# Altium footprint library Relays.PcbLib: 58 footprints (part 1 of 4)
Each footprint in its own frame and in the unit in brackets; x right, y up, seen from the top. Pads: shape width x height; smd on the part's side, far side on the other; paste and mask are expansions set on the pad; w line width, h text height; cw(c..) or ccw(c..) is an arc to the next point about the centre after c.
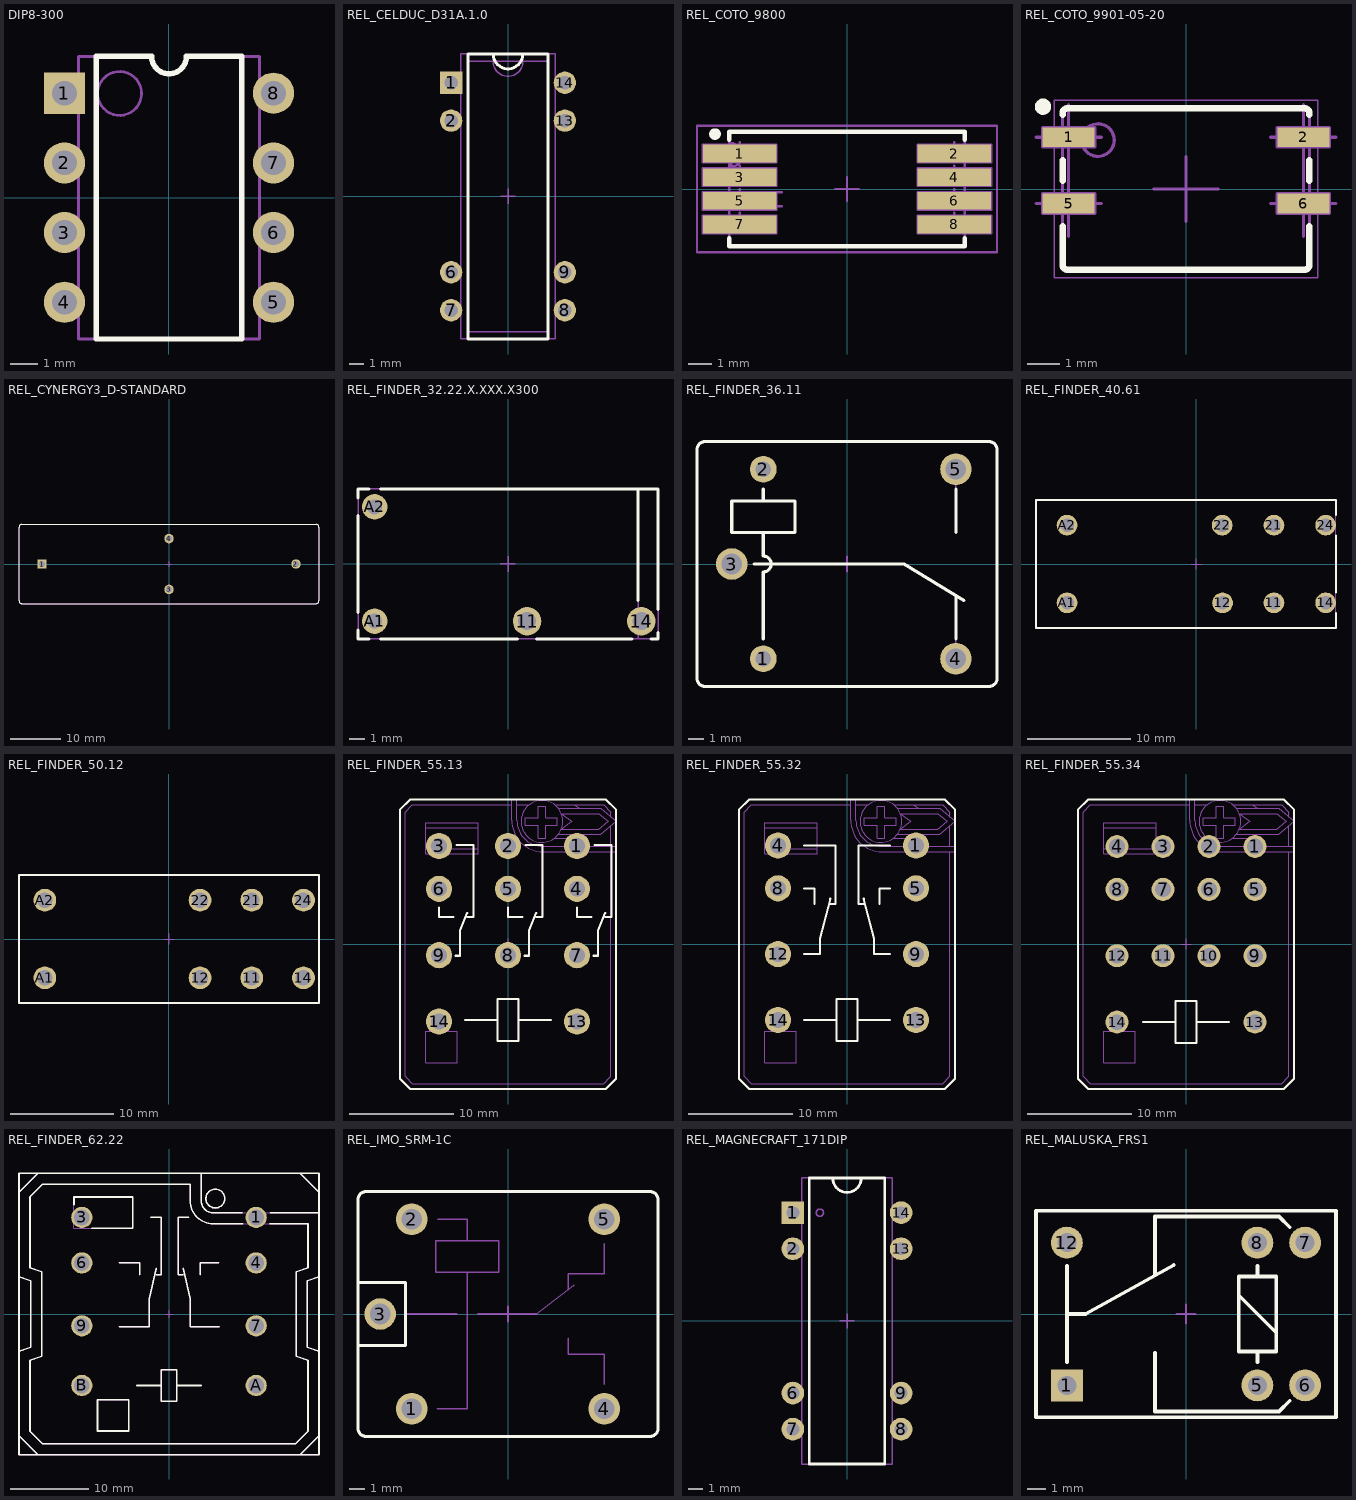
[diagram p0: the footprints below, top view; thin cyan lines are the x and y axes]

## DIP8-300 [mm] "DIP 8 Leads, Row Spacing 7.62 mm; Pitch 2.54 mm"
height 5.08
pads (8):
  rect 1.5x1.5 hole 0.9: 1(-3.81,3.81)
  round 1.5 hole 0.9: 2(-3.81,1.27) 3(-3.81,-1.27) 4(-3.81,-3.81) 5(3.81,-3.81) 6(3.81,-1.27) 7(3.81,1.27) 8(3.81,3.81)
Top Overlay:
  lines w0.2: -2.65,-5.15 2.65,-5.15 2.65,5.15 0.635,5.15 cw(c0,5.15) -0.635,5.15 -2.65,5.15 -2.65,-5.15
Mechanical 14:
  circle w0.1: c-1.8,3.8 r0.8
  lines w0.1: -3.3,-5.15 -3.3,5.15 -0.67,5.15 ccw(c-0.035,5.15) 0.6,5.15 3.3,5.15 3.3,-5.15 -3.3,-5.15
3D body: height 5.33, standoff -3.3, extent -3.91,-5.03 3.96,5.13

## REL_CELDUC_D31A.1.0 [mm] "DIP 14 - 8 Leads, Row Spacing 7.62 mm; Pitch 2.54 mm"
height 6.8
pads (8):
  rect 1.5x1.5 hole 0.9: 1(-3.81,7.62)
  round 1.5 hole 0.9: 2(-3.81,5.08) 6(-3.81,-5.08) 7(-3.81,-7.62) 8(3.81,-7.62) 9(3.81,-5.08) 13(3.81,5.08) 14(3.81,7.62)
Top Overlay:
  lines w0.2: -0.999,9.55 ccw(c0,9.55) 0.999,9.55 ; -2.675,-9.55 -2.675,9.55 2.675,9.55 2.675,-9.55 -2.675,-9.55
Mechanical 8:
  lines w0.1: -4.31,-7.62 -3.81,-7.62 ; -4.31,-5.08 -3.81,-5.08 ; -4.31,5.08 -3.81,5.08 ; -4.31,7.62 -3.81,7.62 ; -3.81,-8.12 -3.81,-7.62 ; -3.81,-7.12 -3.81,-7.62 ; -3.81,-5.58 -3.81,-5.08 ; -3.81,-4.58 -3.81,-5.08 ; -3.81,4.58 -3.81,5.08 ; -3.81,5.58 -3.81,5.08 ; -3.81,7.12 -3.81,7.62 ; -3.81,8.12 -3.81,7.62 ; -3.31,-7.62 -3.81,-7.62 ; -3.31,-5.08 -3.81,-5.08 ; -3.31,5.08 -3.81,5.08 ; -3.31,7.62 -3.81,7.62 ; -0.5,0 0,0 ; 0,-0.5 0,0 ; 0,0.5 0,0 ; 0.5,0 0,0 ; 3.31,-7.62 3.81,-7.62 ; 3.31,-5.08 3.81,-5.08 ; 3.31,5.08 3.81,5.08 ; 3.31,7.62 3.81,7.62 ; 3.81,-8.12 3.81,-7.62 ; 3.81,-7.12 3.81,-7.62 ; 3.81,-5.58 3.81,-5.08 ; 3.81,-4.58 3.81,-5.08 ; 3.81,4.58 3.81,5.08 ; 3.81,5.58 3.81,5.08 ; 3.81,7.12 3.81,7.62 ; 3.81,8.12 3.81,7.62 ; 4.31,-7.62 3.81,-7.62 ; 4.31,-5.08 3.81,-5.08 ; 4.31,5.08 3.81,5.08 ; 4.31,7.62 3.81,7.62
Mechanical 14:
  lines w0.1: -0.999,9.05 ccw(c0,9.05) 0.999,9.05 ; -3.175,-9.55 -3.175,9.55 3.175,9.55 3.175,-9.55 -3.175,-9.55 ; -2.675,-9.05 -2.675,9.05 2.675,9.05 2.675,-9.05 -2.675,-9.05
3D body: height 7.33, standoff -3.3, extent -3.935,-9.551 3.935,9.551

## REL_COTO_9800 [mm] "9800 Serie SMD Reed Relay,  J-Lead Style, COTO 9814 & 9852 Model"
height 5.08
pads (8):
  rect 3.175x0.76 smd: 1(-4.633,1.53) 2(4.633,1.53) 3(-4.633,0.51) 4(4.633,0.51) 5(-4.633,-0.51) 6(4.633,-0.51) 7(-4.633,-1.53) 8(4.633,-1.53)
Top Overlay:
  circle w0.25: c-5.693,2.37 r0.125
  lines w0.2: 5.08,-2.12 5.08,-2.475 -5.08,-2.475 ; 5.08,2.12 5.08,2.475 -5.08,2.475 ; -5.08,-2.475 -5.08,-2.12 -5.08,-2.475 ; -5.08,2.475 -5.08,2.12 -5.08,2.475
Mechanical 8:
  lines w0.1: -5.133,-1.53 -4.633,-1.53 ; -5.133,-0.51 -4.633,-0.51 ; -5.133,0.51 -4.633,0.51 ; -5.133,1.53 -4.633,1.53 ; -4.633,-1.03 -4.633,-1.53 ; -4.633,-0.01 -4.633,-0.51 ; -4.633,1.01 -4.633,0.51 ; -4.633,2.03 -4.633,1.53 ; -4.4,-0.745 -2.8,-0.745 ; -4.4,-0.145 -2.8,-0.145 ; -4.133,-1.53 -4.633,-1.53 ; -4.133,-0.51 -4.633,-0.51 ; -4.133,0.51 -4.633,0.51 ; -4.133,1.53 -4.633,1.53 ; -0.5,0 0,0 ; 0,-0.5 0,0 ; 0,0.5 0,0 ; 0.5,0 0,0 ; 4.133,-1.53 4.633,-1.53 ; 4.133,-0.51 4.633,-0.51 ; 4.133,0.51 4.633,0.51 ; 4.133,1.53 4.633,1.53 ; 4.633,-1.03 4.633,-1.53 ; 4.633,-0.01 4.633,-0.51 ; 4.633,1.01 4.633,0.51 ; 4.633,2.03 4.633,1.53 ; 5.133,-1.53 4.633,-1.53 ; 5.133,-0.51 4.633,-0.51 ; 5.133,0.51 4.633,0.51 ; 5.133,1.53 4.633,1.53 ; -6.22,-1.91 -3.045,-1.91 -3.045,-1.15 -6.22,-1.15 -6.22,-1.91 ; -6.22,-0.89 -3.045,-0.89 -3.045,-0.13 -6.22,-0.13 -6.22,-0.89 ; -6.22,0.13 -3.045,0.13 -3.045,0.89 -6.22,0.89 -6.22,0.13 ; -6.22,1.15 -3.045,1.15 -3.045,1.91 -6.22,1.91 -6.22,1.15 ; 3.045,-1.91 6.22,-1.91 6.22,-1.15 3.045,-1.15 3.045,-1.91 ; 3.045,-0.89 6.22,-0.89 6.22,-0.13 3.045,-0.13 3.045,-0.89 ; 3.045,0.13 6.22,0.13 6.22,0.89 3.045,0.89 3.045,0.13 ; 3.045,1.15 6.22,1.15 6.22,1.91 3.045,1.91 3.045,1.15
Mechanical 14:
  lines w0.1: -5.08,-1.72 -5.585,-1.72 -5.585,-1.34 -5.08,-1.34 ; -5.08,-0.7 -5.585,-0.7 -5.585,-0.32 -5.08,-0.32 ; -5.08,0.32 -5.585,0.32 -5.585,0.7 -5.08,0.7 ; -5.08,1.34 -5.585,1.34 -5.585,1.72 -5.08,1.72 ; 5.08,-1.72 5.585,-1.72 5.585,-1.34 5.08,-1.34 ; 5.08,-0.7 5.585,-0.7 5.585,-0.32 5.08,-0.32 ; 5.08,0.32 5.585,0.32 5.585,0.7 5.08,0.7 ; 5.08,1.34 5.585,1.34 5.585,1.72 5.08,1.72 ; -5.08,-2.475 -5.08,2.475 ; -5.08,-2.475 5.08,-2.475 5.08,2.475 -5.08,2.475 ; -5.08,-2.475 -5.08,2.475 ; -4.98,0.975 ccw(c-4.98,1.475) -4.98,1.975 ; -4.98,0.975 ccw(c-4.98,1.475) -4.98,1.975 ; -4.98,0.975 -4.98,1.975
Mechanical 15:
  lines w0.1: -6.47,-2.725 6.47,-2.725 6.47,2.725 -6.47,2.725 -6.47,-2.725
3D body: height 5.08, standoff 0, extent -5.585,-2.475 5.585,2.475

## REL_COTO_9901-05-20 [mm] "SMD Reed Relay,  J-Lead Style, COTO 9900 Serie"
height 3.6
pads (4):
  rect 1.6x0.6 smd: 1(-3.6,1.585) 2(3.6,1.585) 5(-3.6,-0.445) 6(3.6,-0.445)
Top Overlay:
  circle w0.25: c-4.385,2.525 r0.125
  lines w0.2: -3.785,-1.145 -3.785,-2.324 ccw(c-3.635,-2.324) -3.635,-2.474 3.635,-2.474 ccw(c3.635,-2.324) 3.785,-2.324 3.785,-1.145 ; -3.785,0.255 -3.785,0.885 ; -3.785,2.285 -3.785,2.325 cw(c-3.635,2.325) -3.635,2.475 3.635,2.475 cw(c3.635,2.325) 3.785,2.325 3.785,2.285 ; 3.785,0.255 3.785,0.885
Mechanical 8:
  lines w0.1: -4.6,-0.445 -3.6,-0.445 ; -4.6,1.585 -3.6,1.585 ; -3.6,-1.445 -3.6,-0.445 ; -3.6,0.555 -3.6,-0.445 ; -3.6,0.585 -3.6,1.585 ; -3.6,2.585 -3.6,1.585 ; -2.6,-0.445 -3.6,-0.445 ; -2.6,1.585 -3.6,1.585 ; -1,0 0,0 ; 0,-1 0,0 ; 0,1 0,0 ; 1,0 0,0 ; 2.6,-0.445 3.6,-0.445 ; 2.6,1.585 3.6,1.585 ; 3.6,-1.445 3.6,-0.445 ; 3.6,0.555 3.6,-0.445 ; 3.6,0.585 3.6,1.585 ; 3.6,2.585 3.6,1.585 ; 4.6,-0.445 3.6,-0.445 ; 4.6,1.585 3.6,1.585 ; -4.4,-0.745 -2.8,-0.745 -2.8,-0.145 -4.4,-0.145 -4.4,-0.745 ; -4.4,1.285 -4.4,1.885 -2.8,1.885 -2.8,1.285 -4.4,1.285 ; 2.8,-0.745 4.4,-0.745 4.4,-0.145 2.8,-0.145 2.8,-0.745 ; 2.8,1.285 2.8,1.885 4.4,1.885 4.4,1.285 2.8,1.285
Mechanical 14:
  circle w0.1: c-2.7,1.5 r0.5
  lines w0.1: -3.79,-0.255 -3.97,-0.255 -3.97,-0.635 -3.785,-0.635 ; -3.79,1.775 -3.97,1.775 -3.97,1.395 -3.785,1.395 ; 3.785,1.775 3.97,1.775 3.97,1.395 3.79,1.395 ; 3.79,-0.635 3.97,-0.635 3.97,-0.255 3.79,-0.255 ; -3.785,-2.324 ccw(c-3.635,-2.324) -3.635,-2.474 3.635,-2.474 ccw(c3.635,-2.324) 3.785,-2.324 3.785,2.325 ccw(c3.635,2.325) 3.635,2.475 -3.635,2.475 ccw(c-3.635,2.325) -3.785,2.325 -3.785,-2.324
Mechanical 15:
  lines w0.05: -4.035,-2.724 4.035,-2.724 4.035,2.725 -4.035,2.725 -4.035,-2.724
3D body: height 3.6, standoff 0, extent -3.97,-2.475 3.97,2.475

## REL_CYNERGY3_D-STANDARD [mm] "4 Leads, Body 60mm x 15.8mm, CYNERGY3 Serie D, Standard Mounting Style"
height 18.5
pads (4):
  rect 1.9x1.9 hole 1.2: 1(-25.4,0)
  round 1.9 hole 1.2: 2(25.4,0) 3(0,-5.08) 4(0,5.08)
Top Overlay:
  lines w0.2: -30,-7.4 ccw(c-29.5,-7.4) -29.5,-7.9 29.5,-7.9 ccw(c29.5,-7.4) 30,-7.4 30,7.4 ccw(c29.5,7.4) 29.5,7.9 -29.5,7.9 ccw(c-29.5,7.4) -30,7.4 -30,-7.4
Mechanical 8:
  lines w0.1: -25.9,0 -25.4,0 ; -25.4,-0.5 -25.4,0 ; -25.4,0.5 -25.4,0 ; -24.9,0 -25.4,0 ; -0.5,-5.08 0,-5.08 ; -0.5,0 0,0 ; -0.5,5.08 0,5.08 ; 0,-5.58 0,-5.08 ; 0,-4.58 0,-5.08 ; 0,-0.5 0,0 ; 0,0.5 0,0 ; 0,4.58 0,5.08 ; 0,5.58 0,5.08 ; 0.5,-5.08 0,-5.08 ; 0.5,0 0,0 ; 0.5,5.08 0,5.08 ; 24.9,0 25.4,0 ; 25.4,-0.5 25.4,0 ; 25.4,0.5 25.4,0 ; 25.9,0 25.4,0
Mechanical 14:
  lines w0.1: -30,-7.4 ccw(c-29.5,-7.4) -29.5,-7.9 29.5,-7.9 ccw(c29.5,-7.4) 30,-7.4 30,7.4 ccw(c29.5,7.4) 29.5,7.9 -29.5,7.9 ccw(c-29.5,7.4) -30,7.4 -30,-7.4
3D body: height 18.5, standoff -4, extent -30,-7.9 30,7.9

## REL_FINDER_32.22.X.XXX.X300 [mm] "1 NO (SPST-NO) 32 Serie Subminiature PCB Relay, Body 20mm x 10mm"
height 10.7
pads (4):
  round 1.9 hole 1.2: 11(1.27,-3.81) 14(8.89,-3.81)
  round 1.7 hole 1: A1(-8.89,-3.81) A2(-8.89,3.81)
Top Overlay:
  lines w0.2: -10,-4.385 -10,-5 -9.273,-5 ; -10,-3.235 -10,3.235 ; -10,4.385 -10,5 -9.273,5 ; -8.507,-5 0.633,-5 ; -8.507,5 10,5 10,-3.042 ; 1.907,-5 8.253,-5 ; 8.675,-2.45 8.675,5 ; 9.527,-5 10,-5 10,-4.578
Mechanical 8:
  lines w0.1: -9.39,-3.81 -8.89,-3.81 ; -9.39,3.81 -8.89,3.81 ; -8.89,-4.31 -8.89,-3.81 ; -8.89,-3.31 -8.89,-3.81 ; -8.89,3.31 -8.89,3.81 ; -8.89,4.31 -8.89,3.81 ; -8.39,-3.81 -8.89,-3.81 ; -8.39,3.81 -8.89,3.81 ; -0.5,0 0,0 ; 0,-0.5 0,0 ; 0,0.5 0,0 ; 0.5,0 0,0 ; 0.77,-3.81 1.27,-3.81 ; 1.27,-4.31 1.27,-3.81 ; 1.27,-3.31 1.27,-3.81 ; 1.77,-3.81 1.27,-3.81 ; 8.39,-3.81 8.89,-3.81 ; 8.89,-4.31 8.89,-3.81 ; 8.89,-3.31 8.89,-3.81 ; 9.39,-3.81 8.89,-3.81
Mechanical 14:
  lines w0.1: 8.675,-5 8.675,5 ; -10,-5 10,-5 10,5 -10,5 -10,-5
3D body: height 10.7, standoff -3.6, extent -10,-5 10,5

## REL_FINDER_36.11 [mm] "8 Leads, Row Spacing 12 mm; Body 19mm x 15.5mm, 36 Serie"
height 15.5
pads (5):
  round 1.7 hole 1: 1(-5.3,-6) 2(-5.3,6)
  round 2 hole 1.3: 3(-7.3,0) 4(6.9,-6) 5(6.9,6)
Top Overlay:
  lines w0.2: -5.9,0 3.6,0 7.4,-2.303 ; -5.3,-4.75 -5.3,-0.5 ccw(c-5.3,0) -5.3,0.5 -5.3,2 ; -5.3,4 -5.3,4.75 ; 6.9,-4.75 6.9,-2 ; 6.9,2 6.9,4.75 ; -9.5,-7.25 ccw(c-9,-7.25) -9,-7.75 9,-7.75 ccw(c9,-7.25) 9.5,-7.25 9.5,7.25 ccw(c9,7.25) 9,7.75 -9,7.75 ccw(c-9,7.25) -9.5,7.25 -9.5,-7.25 ; -7.3,2 -7.3,4 -3.3,4 -3.3,2 -7.3,2
Mechanical 8:
  lines w0.1: -7.8,0 -7.3,0 ; -7.3,-0.5 -7.3,0 ; -7.3,0.5 -7.3,0 ; -6.8,0 -7.3,0 ; -5.8,-6 -5.3,-6 ; -5.8,6 -5.3,6 ; -5.3,-6.5 -5.3,-6 ; -5.3,-5.5 -5.3,-6 ; -5.3,5.5 -5.3,6 ; -5.3,6.5 -5.3,6 ; -4.8,-6 -5.3,-6 ; -4.8,6 -5.3,6 ; -0.5,0 0,0 ; 0,-0.5 0,0 ; 0,0.5 0,0 ; 0.5,0 0,0 ; 6.4,-6 6.9,-6 ; 6.4,6 6.9,6 ; 6.9,-6.5 6.9,-6 ; 6.9,-5.5 6.9,-6 ; 6.9,5.5 6.9,6 ; 6.9,6.5 6.9,6 ; 7.4,-6 6.9,-6 ; 7.4,6 6.9,6
Mechanical 14:
  lines w0.1: -5.9,0 3.6,0 7.4,-2.303 ; -5.3,-4.75 -5.3,-0.5 ccw(c-5.3,0) -5.3,0.5 -5.3,2 ; -5.3,4 -5.3,4.75 ; 6.9,-6 6.9,-2 ; 6.9,2 6.9,6 ; -9.5,-7.25 ccw(c-9,-7.25) -9,-7.75 9,-7.75 ccw(c9,-7.25) 9.5,-7.25 9.5,7.25 ccw(c9,7.25) 9,7.75 -9,7.75 ccw(c-9,7.25) -9.5,7.25 -9.5,-7.25 ; -7.3,2 -7.3,4 -3.3,4 -3.3,2 -7.3,2
3D body: height 15.5, standoff -3.6, extent -9.5,-7.75 9.5,7.75

## REL_FINDER_40.61 [mm] "8 Leads, 1 Pole 16A Relay, FINDER 40.61Serie, Body 29mm x 12.4mm"
height 25
pads (8):
  round 2 hole 1.3: 11(7.5,-3.75) 12(2.53,-3.76) 14(12.5,-3.75) 21(7.5,3.75) 22(2.5,3.75) 24(12.5,3.75) A1(-12.5,-3.75) A2(-12.5,3.75)
Top Overlay:
  lines w0.2: 13.5,-4.73 13.5,-6.2 -15.5,-6.2 -15.5,6.2 13.5,6.2 13.5,4.73 ; 13.5,-2.77 13.5,2.77
Mechanical 8:
  lines w0.1: -13,-3.75 -12.5,-3.75 ; -13,3.75 -12.5,3.75 ; -12.5,-4.25 -12.5,-3.75 ; -12.5,-3.25 -12.5,-3.75 ; -12.5,3.25 -12.5,3.75 ; -12.5,4.25 -12.5,3.75 ; -12,-3.75 -12.5,-3.75 ; -12,3.75 -12.5,3.75 ; -0.5,0 0,0 ; 0,-0.5 0,0 ; 0,0.5 0,0 ; 0.5,0 0,0 ; 2,-3.75 2.5,-3.75 ; 2,3.75 2.5,3.75 ; 2.5,-4.25 2.5,-3.75 ; 2.5,-3.25 2.5,-3.75 ; 2.5,3.25 2.5,3.75 ; 2.5,4.25 2.5,3.75 ; 3,-3.75 2.5,-3.75 ; 3,3.75 2.5,3.75 ; 7,-3.75 7.5,-3.75 ; 7,3.75 7.5,3.75 ; 7.5,-4.25 7.5,-3.75 ; 7.5,-3.25 7.5,-3.75 ; 7.5,3.25 7.5,3.75 ; 7.5,4.25 7.5,3.75 ; 8,-3.75 7.5,-3.75 ; 8,3.75 7.5,3.75 ; 12,-3.75 12.5,-3.75 ; 12,3.75 12.5,3.75 ; 12.5,-4.25 12.5,-3.75 ; 12.5,-3.25 12.5,-3.75 ; 12.5,3.25 12.5,3.75 ; 12.5,4.25 12.5,3.75 ; 13,-3.75 12.5,-3.75 ; 13,3.75 12.5,3.75
Mechanical 14:
  lines w0.1: -15.5,-6.2 -15.5,6.2 13.5,6.2 13.5,-6.2 -15.5,-6.2
3D body: height 25, standoff -5.3, extent -15.5,-6.2 13.5,6.2

## REL_FINDER_50.12 [mm] "8 Leads, 2 Pole 8A Relay, FINDER 50.12 Serie, Body 29mm x 12.4mm"
height 25
pads (8):
  round 2.2 hole 1.5: 11(8,-3.75) 12(3,-3.75) 14(13,-3.75) 21(8,3.75) 22(3,3.75) 24(13,3.75) A1(-12,-3.75) A2(-12,3.75)
Top Overlay:
  lines w0.2: -14.5,-6.2 -14.5,6.2 14.5,6.2 14.5,-6.2 -14.5,-6.2
Mechanical 8:
  lines w0.1: -12.5,-3.75 -12,-3.75 ; -12.5,3.75 -12,3.75 ; -12,-4.25 -12,-3.75 ; -12,-3.25 -12,-3.75 ; -12,3.25 -12,3.75 ; -12,4.25 -12,3.75 ; -11.5,-3.75 -12,-3.75 ; -11.5,3.75 -12,3.75 ; -0.5,0 0,0 ; 0,-0.5 0,0 ; 0,0.5 0,0 ; 0.5,0 0,0 ; 2.5,-3.75 3,-3.75 ; 2.5,3.75 3,3.75 ; 3,-4.25 3,-3.75 ; 3,-3.25 3,-3.75 ; 3,3.25 3,3.75 ; 3,4.25 3,3.75 ; 3.5,-3.75 3,-3.75 ; 3.5,3.75 3,3.75 ; 7.5,-3.75 8,-3.75 ; 7.5,3.75 8,3.75 ; 8,-4.25 8,-3.75 ; 8,-3.25 8,-3.75 ; 8,3.25 8,3.75 ; 8,4.25 8,3.75 ; 8.5,-3.75 8,-3.75 ; 8.5,3.75 8,3.75 ; 12.5,-3.75 13,-3.75 ; 12.5,3.75 13,3.75 ; 13,-4.25 13,-3.75 ; 13,-3.25 13,-3.75 ; 13,3.25 13,3.75 ; 13,4.25 13,3.75 ; 13.5,-3.75 13,-3.75 ; 13.5,3.75 13,3.75
Mechanical 14:
  lines w0.1: -14.5,-6.2 -14.5,6.2 14.5,6.2 14.5,-6.2 -14.5,-6.2
3D body: height 25, standoff -3.8, extent -14.5,-6.2 14.5,6.2

## REL_FINDER_55.13 [mm] "11 Leads, Row Spacing 13.2mm; Body 20.7mm x 27.7mm, FINDER_55.13 Serie"
height 35.8
pads (11):
  round 2.5 hole 1.5: 1(6.6,9.4) 2(0,9.4) 3(-6.6,9.4) 4(6.6,5.3) 5(0,5.3) 6(-6.6,5.3) 7(6.6,-1.05) 8(0,-1.05) 9(-6.6,-1.05) 13(6.6,-7.4) 14(-6.6,-7.4)
Top Overlay:
  lines w0.2: -6.6,3.5 -6.6,2.6 -5.2,2.6 ; -5,-1.1 -4.6,-1.1 -4.6,1.3 -3.9,3 ; -4.9,9.5 -3.3,9.5 -3.3,2.6 -3.9,2.6 ; -4.1,-7.25 -1,-7.25 ; 0,3.5 0,2.6 1.4,2.6 ; 1,-7.25 4.1,-7.25 ; 1.6,-1.1 2,-1.1 2,1.3 2.7,3 ; 1.7,9.5 3.3,9.5 3.3,2.6 2.7,2.6 ; 6.6,3.5 6.6,2.6 8,2.6 ; 8.2,-1.1 8.6,-1.1 8.6,1.3 9.3,3 ; 8.3,9.5 9.9,9.5 9.9,2.6 9.3,2.6 ; -10.35,-12.85 -10.35,12.85 -9.35,13.85 9.35,13.85 10.35,12.85 10.35,-12.85 9.35,-13.85 -9.35,-13.85 -10.35,-12.85 ; -1,-9.25 1,-9.25 1,-5.25 -1,-5.25 -1,-9.25
Mechanical 8:
  lines w0.1: -7.1,-7.4 -6.6,-7.4 ; -7.1,-1.05 -6.6,-1.05 ; -7.1,5.3 -6.6,5.3 ; -7.1,9.4 -6.6,9.4 ; -6.6,-7.9 -6.6,-7.4 ; -6.6,-6.9 -6.6,-7.4 ; -6.6,-1.55 -6.6,-1.05 ; -6.6,-0.55 -6.6,-1.05 ; -6.6,4.8 -6.6,5.3 ; -6.6,5.8 -6.6,5.3 ; -6.6,8.9 -6.6,9.4 ; -6.6,9.9 -6.6,9.4 ; -6.1,-7.4 -6.6,-7.4 ; -6.1,-1.05 -6.6,-1.05 ; -6.1,5.3 -6.6,5.3 ; -6.1,9.4 -6.6,9.4 ; -0.5,-1.05 0,-1.05 ; -0.5,0 0,0 ; -0.5,5.3 0,5.3 ; -0.5,9.4 0,9.4 ; 0,-1.55 0,-1.05 ; 0,-0.55 0,-1.05 ; 0,-0.5 0,0 ; 0,0.5 0,0 ; 0,4.8 0,5.3 ; 0,5.8 0,5.3 ; 0,8.9 0,9.4 ; 0,9.9 0,9.4 ; 0.5,-1.05 0,-1.05 ; 0.5,0 0,0 ; 0.5,5.3 0,5.3 ; 0.5,9.4 0,9.4 ; 6.1,-7.4 6.6,-7.4 ; 6.1,-1.05 6.6,-1.05 ; 6.1,5.3 6.6,5.3 ; 6.1,9.4 6.6,9.4 ; 6.6,-7.9 6.6,-7.4 ; 6.6,-6.9 6.6,-7.4 ; 6.6,-1.55 6.6,-1.05 ; 6.6,-0.55 6.6,-1.05 ; 6.6,4.8 6.6,5.3 ; 6.6,5.8 6.6,5.3 ; 6.6,8.9 6.6,9.4 ; 6.6,9.9 6.6,9.4 ; 7.1,-7.4 6.6,-7.4 ; 7.1,-1.05 6.6,-1.05 ; 7.1,5.3 6.6,5.3 ; 7.1,9.4 6.6,9.4
  text "21" at -1.5,-1.95 h1.5
  text "8" at 3,-1.55 h1.5
  text "24" at -1.5,4.05 h1.5
  text "5" at 3,4.75 h1.5
  text "22" at -1.5,8.15 h1.5
  text "2" at 3,8.95 h1.5
  text "A1" at 5.1,-8.45 h1.5
  text "11" at 5.1,-1.95 h1.5
  text "12" at 4.9,8.45 h1.5
  text "14" at 5.2,4.25 h1.5
  text "14" at -3.6,-8.45 h1.5
  text "9" at -3.6,-1.45 h1.5
  text "3" at -3.6,8.85 h1.5
  text "6" at -3.6,4.75 h1.5
  text "A2" at -8.1,-8.55 h1.5
  text "31" at -8.1,-1.95 h1.5
  text "42" at -8.1,8.15 h1.5
  text "34" at -8.1,4.05 h1.5
  text "13" at 9.6,-8.45 h1.5
  text "7" at 9.6,-1.55 h1.5
  text "1" at 9.7,9.25 h1.5
  text "4" at 9.7,4.85 h1.5
Mechanical 14:
  circle w0.1: c3.25,11.75 r2
  lines w0.1: -7.85,9.143 -2.85,9.143 ; -7.85,11.143 -2.85,11.143 ; -6.6,3.5 -6.6,2.6 -5.2,2.6 ; -5,-1.1 -4.6,-1.1 -4.6,1.3 -3.9,3 ; -4.9,9.5 -3.3,9.5 -3.3,2.6 -3.9,2.6 ; -4.1,-7.25 -1,-7.25 ; 0,3.5 0,2.6 1.4,2.6 ; 0.35,13.35 -9.143,13.35 -9.85,12.643 -9.85,-12.643 -9.143,-13.35 9.143,-13.35 9.85,-12.643 9.85,8.85 ; 0.35,13.85 0.35,11.85 ccw(c3.35,11.85) 3.35,8.85 10.35,8.85 ; 0.85,13.35 2.05,13.35 ; 0.85,13.85 0.85,11.85 ccw(c3.35,11.85) 3.35,9.35 10.35,9.35 ; 1,-7.25 4.1,-7.25 ; 1.6,-1.1 2,-1.1 2,1.3 2.7,3 ; 1.7,9.5 3.3,9.5 3.3,2.6 2.7,2.6 ; 4.45,10.15 6.346,10.15 6.831,10.5 ; 4.45,13.35 6.346,13.35 ; 4.811,10.5 8.85,10.5 10.35,11.75 8.85,13 4.811,13 ; 6.6,3.5 6.6,2.6 8,2.6 ; 6.831,13 6.346,13.35 ; 8.2,-1.1 8.6,-1.1 8.6,1.3 9.3,3 ; 8.3,9.5 9.9,9.5 9.9,2.6 9.3,2.6 ; 9.85,9.35 9.85,11.333 ; 9.85,12.167 9.85,12.643 9.143,13.35 6.346,13.35 ; -10.35,-12.85 -10.35,12.85 -9.35,13.85 9.35,13.85 10.35,12.85 10.35,-12.85 9.35,-13.85 -9.35,-13.85 -10.35,-12.85 ; -7.85,-11.343 -4.85,-11.343 -4.85,-8.343 -7.85,-8.343 -7.85,-11.343 ; -7.85,8.643 -2.85,8.643 -2.85,11.643 -7.85,11.643 -7.85,8.643 ; -1,-9.25 -1,-5.25 1,-5.25 1,-9.25 -1,-9.25 ; 1.641,11.402 2.902,11.402 2.902,10.153 3.588,10.153 3.588,11.402 4.71,11.402 4.71,12.088 3.588,12.088 3.588,13.222 2.902,13.222 2.902,12.088 1.641,12.088 1.641,11.402 ; 5.104,11 6.075,11.75 5.104,12.5 8.669,12.5 9.569,11.75 8.669,11 5.104,11
3D body: height 36.3, standoff -3.8, extent -10.35,-13.85 10.35,13.85

## REL_FINDER_55.32 [mm] "8 Leads, Row Spacing 13.2mm; Body 20.7mm x 27.7mm, FINDER_55.32 Serie"
height 37.2
pads (8):
  round 2.5 hole 1.5: 1(6.6,9.45) 4(-6.6,9.45) 5(6.6,5.35) 8(-6.6,5.35) 9(6.6,-0.95) 12(-6.6,-0.95) 13(6.6,-7.25) 14(-6.6,-7.25)
Top Overlay:
  lines w0.2: -4.1,-7.25 -1,-7.25 ; -4.1,-0.95 -2.6,-0.95 -2.6,0.55 -1.6,4.35 ; -4.1,5.35 -3.1,5.35 -3.1,3.85 ; -4.1,9.45 -1.1,9.45 -1.1,3.85 -1.732,3.85 ; 1,-7.25 4.1,-7.25 ; 1.6,4.35 2.6,0.55 2.6,-0.95 4.1,-0.95 ; 1.732,3.85 1.1,3.85 1.1,9.45 4.1,9.45 ; 3.1,3.85 3.1,5.35 4.1,5.35 ; -10.35,-12.85 -9.35,-13.85 9.35,-13.85 10.35,-12.85 10.35,12.85 9.35,13.85 -9.35,13.85 -10.35,12.85 -10.35,-12.85 ; -1,-9.25 -1,-5.25 1,-5.25 1,-9.25 -1,-9.25
Mechanical 8:
  lines w0.1: -7.6,-7.25 -6.6,-7.25 -6.6,-8.25 ; -7.6,-0.95 -6.6,-0.95 -6.6,-1.95 ; -7.6,5.35 -6.6,5.35 -6.6,4.35 ; -7.6,9.45 -6.6,9.45 -6.6,8.45 ; 5.6,-7.25 6.6,-7.25 6.6,-8.25 ; 5.6,-0.95 6.6,-0.95 6.6,-1.95 ; 5.6,5.35 6.6,5.35 6.6,4.35 ; 5.6,9.45 6.6,9.45 6.6,8.45
  text "14" at 9.35,4.35 h1.5
  text "12" at 9.35,8.45 h1.5
  text "11" at 9.35,-1.7 h1.5
  text "A1" at 9.35,-8.25 h1.5
  text "44" at -7.85,4.1 h1.5
  text "42" at -7.85,8.2 h1.5
  text "41" at -7.85,-1.95 h1.5
  text "A2" at -7.85,-8.5 h1.5
  text "8" at -3.85,4.85 h1.5
  text "4" at -3.85,8.95 h1.5
  text "12" at -3.85,-1.95 h1.5
  text "14" at -3.85,-8.25 h1.5
  text "5" at 5.35,4.85 h1.5
  text "1" at 5.35,9.2 h1.5
  text "9" at 5.35,-1.45 h1.5
  text "13" at 5.35,-8.25 h1.5
  text "Must be Used with FINDER 94.12 Socket" at -1.27,-13.335 h0.95
Mechanical 14:
  circle w0.1: c3.25,11.75 r2
  lines w0.1: -7.85,9.143 -2.85,9.143 ; -7.85,11.143 -2.85,11.143 ; 0.35,13.35 -9.143,13.35 -9.85,12.643 -9.85,-12.643 -9.143,-13.35 9.143,-13.35 9.85,-12.643 9.85,8.85 ; 0.35,13.85 0.35,11.85 ccw(c3.35,11.85) 3.35,8.85 10.35,8.85 ; 0.85,13.35 2.05,13.35 ; 0.85,13.85 0.85,11.85 ccw(c3.35,11.85) 3.35,9.35 10.35,9.35 ; 4.45,10.15 6.346,10.15 6.831,10.5 ; 4.45,13.35 6.346,13.35 ; 4.811,10.5 8.85,10.5 10.35,11.75 8.85,13 4.811,13 ; 6.831,13 6.346,13.35 ; 9.85,9.35 9.85,11.333 ; 9.85,12.167 9.85,12.643 9.143,13.35 6.346,13.35 ; -10.35,-12.85 -9.35,-13.85 9.35,-13.85 10.35,-12.85 10.35,12.85 9.35,13.85 -9.35,13.85 -10.35,12.85 -10.35,-12.85 ; -7.85,-11.343 -7.85,-8.343 -4.85,-8.343 -4.85,-11.343 -7.85,-11.343 ; -7.85,8.643 -7.85,11.643 -2.85,11.643 -2.85,8.643 -7.85,8.643 ; 1.641,11.402 1.641,12.088 2.902,12.088 2.902,13.222 3.588,13.222 3.588,12.088 4.71,12.088 4.71,11.402 3.588,11.402 3.588,10.153 2.902,10.153 2.902,11.402 1.641,11.402 ; 5.104,11 8.669,11 9.569,11.75 8.669,12.5 5.104,12.5 6.075,11.75 5.104,11
3D body: height 48.2, standoff 5.4, extent -10.35,-13.85 10.35,13.85

## REL_FINDER_55.34 [mm] "14 Leads, Row Spacing 4.4mm; Body 20.7mm x 27.7mm, FINDER_55.34 Serie"
height 37.2
pads (14):
  round 2.2 hole 1.5: 1(6.6,9.35) 2(2.2,9.35) 3(-2.2,9.35) 4(-6.6,9.35) 5(6.6,5.25) 6(2.2,5.25) 7(-2.2,5.25) 8(-6.6,5.25) 9(6.6,-1.1) 10(2.2,-1.1) 11(-2.2,-1.1) 12(-6.6,-1.1) 13(6.6,-7.45) 14(-6.6,-7.45)
Top Overlay:
  lines w0.2: -4.1,-7.45 -1,-7.45 ; 1,-7.45 4.1,-7.45 ; -10.35,-12.85 -10.35,12.85 -9.35,13.85 9.35,13.85 10.35,12.85 10.35,-12.85 9.35,-13.85 -9.35,-13.85 -10.35,-12.85 ; -1,-9.45 1,-9.45 1,-5.45 -1,-5.45 -1,-9.45
Mechanical 8:
  lines w0.1: -7.1,-7.45 -6.6,-7.45 ; -7.1,-1.1 -6.6,-1.1 ; -7.1,5.25 -6.6,5.25 ; -7.1,9.35 -6.6,9.35 ; -6.6,-7.95 -6.6,-7.45 ; -6.6,-6.95 -6.6,-7.45 ; -6.6,-1.6 -6.6,-1.1 ; -6.6,-0.6 -6.6,-1.1 ; -6.6,4.75 -6.6,5.25 ; -6.6,5.75 -6.6,5.25 ; -6.6,8.85 -6.6,9.35 ; -6.6,9.85 -6.6,9.35 ; -6.1,-7.45 -6.6,-7.45 ; -6.1,-1.1 -6.6,-1.1 ; -6.1,5.25 -6.6,5.25 ; -6.1,9.35 -6.6,9.35 ; -2.7,-1.1 -2.2,-1.1 ; -2.7,5.25 -2.2,5.25 ; -2.7,9.35 -2.2,9.35 ; -2.2,-1.6 -2.2,-1.1 ; -2.2,-0.6 -2.2,-1.1 ; -2.2,4.75 -2.2,5.25 ; -2.2,5.75 -2.2,5.25 ; -2.2,8.85 -2.2,9.35 ; -2.2,9.85 -2.2,9.35 ; -1.7,-1.1 -2.2,-1.1 ; -1.7,5.25 -2.2,5.25 ; -1.7,9.35 -2.2,9.35 ; -0.5,0 0,0 ; 0,-0.5 0,0 ; 0,0.5 0,0 ; 0.5,0 0,0 ; 1.7,-1.1 2.2,-1.1 ; 1.7,5.25 2.2,5.25 ; 1.7,9.35 2.2,9.35 ; 2.2,-1.6 2.2,-1.1 ; 2.2,-0.6 2.2,-1.1 ; 2.2,4.75 2.2,5.25 ; 2.2,5.75 2.2,5.25 ; 2.2,8.85 2.2,9.35 ; 2.2,9.85 2.2,9.35 ; 2.7,-1.1 2.2,-1.1 ; 2.7,5.25 2.2,5.25 ; 2.7,9.35 2.2,9.35 ; 6.1,-7.45 6.6,-7.45 ; 6.1,-1.1 6.6,-1.1 ; 6.1,5.25 6.6,5.25 ; 6.1,9.35 6.6,9.35 ; 6.6,-7.95 6.6,-7.45 ; 6.6,-6.95 6.6,-7.45 ; 6.6,-1.6 6.6,-1.1 ; 6.6,-0.6 6.6,-1.1 ; 6.6,4.75 6.6,5.25 ; 6.6,5.75 6.6,5.25 ; 6.6,8.85 6.6,9.35 ; 6.6,9.85 6.6,9.35 ; 7.1,-7.45 6.6,-7.45 ; 7.1,-1.1 6.6,-1.1 ; 7.1,5.25 6.6,5.25 ; 7.1,9.35 6.6,9.35
  text "12" at -7.85,-1.95 h1.5
  text "4" at -7.9,8.8 h1.5
  text "8" at -7.9,4.8 h1.5
  text "7" at -3.5,4.8 h1.5
  text "3" at -3.5,8.9 h1.5
  text "2" at 0.9,8.9 h1.5
  text "6" at 0.9,4.8 h1.5
  text "11" at -3.5,-1.5 h1.5
  text "10" at 0.9,-2 h1.5
  text "9" at 5.3,-1.5 h1.5
  text "5" at 5.3,4.8 h1.5
  text "1" at 5.3,8.9 h1.5
  text "13" at 5.3,-8.55 h1.5
  text "14" at -7.9,-8.55 h1.5
Mechanical 14:
  circle w0.1: c3.25,11.75 r2
  lines w0.1: -7.85,9.143 -2.85,9.143 ; -7.85,11.143 -2.85,11.143 ; 0.35,13.35 -9.143,13.35 -9.85,12.643 -9.85,-12.643 -9.143,-13.35 9.143,-13.35 9.85,-12.643 9.85,8.85 ; 0.35,13.85 0.35,11.85 ccw(c3.35,11.85) 3.35,8.85 10.35,8.85 ; 0.85,13.35 2.05,13.35 ; 0.85,13.85 0.85,11.85 ccw(c3.35,11.85) 3.35,9.35 10.35,9.35 ; 4.45,10.15 6.346,10.15 6.831,10.5 ; 4.45,13.35 6.346,13.35 ; 4.811,10.5 8.85,10.5 10.35,11.75 8.85,13 4.811,13 ; 6.831,13 6.346,13.35 ; 9.85,9.35 9.85,11.333 ; 9.85,12.167 9.85,12.643 9.143,13.35 6.346,13.35 ; -10.35,-12.85 -10.35,12.85 ; -10.35,-12.85 -9.35,-13.85 ; -10.35,-12.85 -10.35,12.85 ; -10.35,-12.85 -9.35,-13.85 ; -10.35,12.85 -9.35,13.85 ; -10.35,12.85 -9.35,13.85 ; -9.35,-13.85 9.35,-13.85 ; -9.35,-13.85 9.35,-13.85 ; -9.35,13.85 9.35,13.85 ; -9.35,13.85 9.35,13.85 ; 9.35,-13.85 10.35,-12.85 ; 9.35,-13.85 10.35,-12.85 ; 9.35,13.85 10.35,12.85 ; 9.35,13.85 10.35,12.85 ; 10.35,-12.85 10.35,12.85 ; 10.35,-12.85 10.35,12.85 ; -7.85,-11.343 -4.85,-11.343 -4.85,-8.343 -7.85,-8.343 -7.85,-11.343 ; -7.85,8.643 -2.85,8.643 -2.85,11.643 -7.85,11.643 -7.85,8.643 ; 1.641,11.402 2.902,11.402 2.902,10.153 3.588,10.153 3.588,11.402 4.71,11.402 4.71,12.088 3.588,12.088 3.588,13.222 2.902,13.222 2.902,12.088 1.641,12.088 1.641,11.402 ; 5.104,11 8.669,11 9.569,11.75 8.669,12.5 5.104,12.5 6.075,11.75 5.104,11
3D body: height 48.7, standoff 5.4, extent -10.35,-13.85 10.35,13.85

## REL_FINDER_62.22 [mm] "8 Leads, Row Spacing 22.2mm; Body 35.8mm x 38.2mm, FINDER 62.22 Serie"
height 37.2
pads (8):
  round 2.7 hole 2: 1(11.1,12.3) 3(-11.1,12.3) 4(11.1,6.5) 6(-11.1,6.5) 7(11.1,-1.5) 9(-11.1,-1.5) A(11.1,-9.1) B(-11.1,-9.1)
Top Overlay:
  circle w0.2: c5.9,14.7 r1.2
  lines w0.2: -19.1,-4.75 -17.6,-4.25 -17.6,4.25 -19.1,4.75 ; -12.1,13.916 -12.1,14.9 -4.6,14.9 -4.6,10.9 -9.815,10.9 ; -6.3,-1.6 -2.5,-1.6 -2.5,1.9 -1.6,5.8 ; -6.3,6.5 -3.7,6.5 -3.7,5 ; -4.1,-9.1 -1,-9.1 ; -2.3,12.3 -1,12.3 -1,5 -1.632,5 ; 1,-9.1 4.1,-9.1 ; 1.8,5.8 2.7,1.9 2.7,-1.6 6.4,-1.6 ; 1.832,5 1.2,5 1.2,12.3 2.5,12.3 ; 4,5 4,6.5 6.3,6.5 ; 4.1,17.9 4.1,14.4 ccw(c5.6,14.4) 5.6,12.9 9.297,12.9 ; 9.377,11.5 5.6,11.5 cw(c5.6,14.4) 2.7,14.4 2.7,16.5 -16.127,16.5 -17.7,14.927 -17.7,5.899 -16.2,5.399 -16.2,-5.399 -17.7,-5.899 -17.7,-14.927 -16.127,-16.5 16.127,-16.5 17.7,-14.927 17.7,-5.899 16.2,-5.399 16.2,5.399 17.7,5.899 17.7,11.5 12.823,11.5 ; 12.903,12.9 19.1,12.9 ; 19.1,-4.75 17.6,-4.25 17.6,4.25 19.1,4.75 ; -19.1,-15.5 -19.1,-17.9 -16.7,-17.9 ; -19.1,-15.5 -16.7,-17.9 ; -19.1,-15.5 -19.1,15.5 ; -19.1,15.5 -19.1,17.9 -16.7,17.9 ; -19.1,15.5 -16.7,17.9 ; -16.7,-17.9 16.7,-17.9 ; -16.7,17.9 16.7,17.9 ; 16.7,-17.9 19.1,-17.9 19.1,-15.5 ; 16.7,-17.9 19.1,-15.5 ; 16.7,17.9 19.1,17.9 19.1,15.5 ; 16.7,17.9 19.1,15.5 ; 19.1,-15.5 19.1,15.5 ; -9.1,-14.9 -9.1,-10.9 -5.1,-10.9 -5.1,-14.9 -9.1,-14.9 ; -1,-11.1 -1,-7.1 1,-7.1 1,-11.1 -1,-11.1
Mechanical 8:
  lines w0.1: -11.6,-9.1 -11.1,-9.1 ; -11.6,-1.5 -11.1,-1.5 ; -11.6,6.5 -11.1,6.5 ; -11.6,12.3 -11.1,12.3 ; -11.1,-9.6 -11.1,-9.1 ; -11.1,-8.6 -11.1,-9.1 ; -11.1,-2 -11.1,-1.5 ; -11.1,-1 -11.1,-1.5 ; -11.1,6 -11.1,6.5 ; -11.1,7 -11.1,6.5 ; -11.1,11.8 -11.1,12.3 ; -11.1,12.8 -11.1,12.3 ; -10.6,-9.1 -11.1,-9.1 ; -10.6,-1.5 -11.1,-1.5 ; -10.6,6.5 -11.1,6.5 ; -10.6,12.3 -11.1,12.3 ; -0.5,0 0,0 ; 0,-0.5 0,0 ; 0,0.5 0,0 ; 0.5,0 0,0 ; 10.6,-9.1 11.1,-9.1 ; 10.6,-1.5 11.1,-1.5 ; 10.6,6.5 11.1,6.5 ; 10.6,12.3 11.1,12.3 ; 11.1,-9.6 11.1,-9.1 ; 11.1,-8.6 11.1,-9.1 ; 11.1,-2 11.1,-1.5 ; 11.1,-1 11.1,-1.5 ; 11.1,6 11.1,6.5 ; 11.1,7 11.1,6.5 ; 11.1,11.8 11.1,12.3 ; 11.1,12.8 11.1,12.3 ; 11.6,-9.1 11.1,-9.1 ; 11.6,-1.5 11.1,-1.5 ; 11.6,6.5 11.1,6.5 ; 11.6,12.3 11.1,12.3
  text "34" at -7.55,5.5 h1.5
  text "32" at -7.55,11.3 h1.5
  text "31" at -7.55,-2.25 h1.5
  text "A2" at -7.55,-10.1 h1.5
  text "14" at 9.05,5.25 h1.5
  text "12" at 9.05,11.05 h1.5
  text "11" at 9.05,-2.5 h1.5
  text "A1" at 9.05,-10.35 h1.5
  text "4" at 14.65,6 h1.5
  text "1" at 14.65,11.8 h1.5
  text "7" at 14.65,-2.5 h1.5
  text "A" at 14.65,-10.1 h1.5
  text "6" at -13.15,6 h1.5
  text "3" at -13.15,12.05 h1.5
  text "9" at -13.15,-2 h1.5
  text "B" at -13.15,-10.1 h1.5
Mechanical 14:
  circle w0.1: c5.9,14.7 r1.2
  lines w0.1: -19.1,-4.75 -17.6,-4.25 -17.6,4.25 -19.1,4.75 ; -6.3,-1.6 -2.5,-1.6 -2.5,1.9 -1.6,5.8 ; -6.3,6.5 -3.7,6.5 -3.7,5 ; -4.1,-9.1 -1,-9.1 ; -2.3,12.3 -1,12.3 -1,5 -1.632,5 ; 1,-9.1 4.1,-9.1 ; 1.8,5.8 2.7,1.9 2.7,-1.6 6.4,-1.6 ; 1.832,5 1.2,5 1.2,12.3 2.5,12.3 ; 4,5 4,6.5 6.3,6.5 ; 4.1,17.9 4.1,14.4 ccw(c5.6,14.4) 5.6,12.9 19.1,12.9 ; 19.1,-4.75 17.6,-4.25 17.6,4.25 19.1,4.75 ; -19.1,-15.5 -16.7,-17.9 ; -19.1,-15.5 -19.1,15.5 ; -19.1,-15.5 -19.1,-17.9 -16.7,-17.9 ; -19.1,15.5 -16.7,17.9 ; -19.1,15.5 -19.1,17.9 -16.7,17.9 ; -16.7,-17.9 16.7,-17.9 ; -16.7,17.9 16.7,17.9 ; 16.7,-17.9 19.1,-15.5 ; 16.7,-17.9 19.1,-17.9 19.1,-15.5 ; 16.7,17.9 19.1,15.5 ; 16.7,17.9 19.1,17.9 19.1,15.5 ; 19.1,-15.5 19.1,15.5 ; -17.7,-14.927 -17.7,-5.899 -16.2,-5.399 -16.2,5.399 -17.7,5.899 -17.7,14.927 -16.127,16.5 2.7,16.5 2.7,14.4 ccw(c5.6,14.4) 5.6,11.5 17.7,11.5 17.7,5.899 16.2,5.399 16.2,-5.399 17.7,-5.899 17.7,-14.927 16.127,-16.5 -16.127,-16.5 -17.7,-14.927 ; -12.1,10.9 -12.1,14.9 -4.6,14.9 -4.6,10.9 -12.1,10.9 ; -9.1,-14.9 -9.1,-10.9 -5.1,-10.9 -5.1,-14.9 -9.1,-14.9 ; -1,-11.1 1,-11.1 1,-7.1 -1,-7.1 -1,-11.1
3D body: height 49.1, standoff -4, extent -19.1,-17.9 19.1,17.9

## REL_IMO_SRM-1C [mm] "8 Leads, Row Spacing 12 mm; Body 19mm x 15.5mm, SRM Serie"
height 15.5
pads (5):
  round 2 hole 1.3: 1(-6.1,-6) 2(-6.1,6) 3(-8.1,0) 4(6.1,-6) 5(6.1,6)
Top Overlay:
  lines w0.2: -9.5,-2 -6.5,-2 -6.5,2 -9.5,2 ; -9.5,-7.25 ccw(c-9,-7.25) -9,-7.75 9,-7.75 ccw(c9,-7.25) 9.5,-7.25 9.5,7.25 ccw(c9,7.25) 9,7.75 -9,7.75 ccw(c-9,7.25) -9.5,7.25 -9.5,-7.25
Mechanical 8:
  lines w0.1: -8.6,0 -8.1,0 ; -8.1,-0.5 -8.1,0 ; -8.1,0.5 -8.1,0 ; -7.6,0 -8.1,0 ; -6.6,-6 -6.1,-6 ; -6.6,6 -6.1,6 ; -6.5,0 -3.25,0 ; -6.1,-6.5 -6.1,-6 ; -6.1,-5.5 -6.1,-6 ; -6.1,5.5 -6.1,6 ; -6.1,6.5 -6.1,6 ; -5.6,-6 -6.1,-6 ; -5.6,6 -6.1,6 ; -4.475,-6 -2.575,-6 -2.575,2.65 ; -4.45,6 -2.575,6 -2.575,4.65 ; -1.9,0 1.81,0 4.152,1.803 ; 3.81,-1.54 3.81,-2.54 6.1,-2.54 ; 3.81,1.54 3.81,2.54 6.1,2.54 6.1,4.44 ; 5.6,-6 6.1,-6 ; 5.6,6 6.1,6 ; 6.1,-6.5 6.1,-6 ; 6.1,-5.5 6.1,-6 ; 6.1,-4.45 6.1,-2.55 ; 6.1,5.5 6.1,6 ; 6.1,6.5 6.1,6 ; 6.6,-6 6.1,-6 ; 6.6,6 6.1,6 ; 0,0 0,0.5 0,0 ; 0,0 0.5,0 0,0 ; 0,0 0,-0.5 0,0 ; 0,0 -0.5,0 0,0 ; -4.575,2.65 -4.575,4.65 -0.575,4.65 -0.575,2.65 -4.575,2.65
Mechanical 14:
  lines w0.1: -9.5,-2 -6.5,-2 -6.5,2 -9.5,2 ; -9.5,-7.25 ccw(c-9,-7.25) -9,-7.75 9,-7.75 ccw(c9,-7.25) 9.5,-7.25 9.5,7.25 ccw(c9,7.25) 9,7.75 -9,7.75 ccw(c-9,7.25) -9.5,7.25 -9.5,-7.25
3D body: height 15.5, standoff -3.6, extent -9.5,-7.75 9.5,7.75

## REL_MAGNECRAFT_171DIP [mm] "DIP 14 Leads, Row Spacing 7.62 mm; Pitch 2.54 mm, PCB & Reed Relay, 171DIP Serie"
height 8
pads (8):
  rect 1.6x1.6 hole 0.9: 1(-3.81,7.62)
  round 1.6 hole 0.9: 2(-3.81,5.08) 6(-3.81,-5.08) 7(-3.81,-7.62) 8(3.81,-7.62) 9(3.81,-5.08) 13(3.81,5.08) 14(3.81,7.62)
Top Overlay:
  lines w0.2: -1,10.046 ccw(c0,10.046) 1,10.046 ; -2.66,-10.07 -2.66,10.07 2.66,10.07 2.66,-10.07 -2.66,-10.07
Mechanical 8:
  lines w0.1: -4.31,-7.62 -3.81,-7.62 ; -4.31,-5.08 -3.81,-5.08 ; -4.31,5.08 -3.81,5.08 ; -4.31,7.62 -3.81,7.62 ; -3.81,-8.12 -3.81,-7.62 ; -3.81,-7.12 -3.81,-7.62 ; -3.81,-5.58 -3.81,-5.08 ; -3.81,-4.58 -3.81,-5.08 ; -3.81,4.58 -3.81,5.08 ; -3.81,5.58 -3.81,5.08 ; -3.81,7.12 -3.81,7.62 ; -3.81,8.12 -3.81,7.62 ; -3.31,-7.62 -3.81,-7.62 ; -3.31,-5.08 -3.81,-5.08 ; -3.31,5.08 -3.81,5.08 ; -3.31,7.62 -3.81,7.62 ; -0.5,0 0,0 ; 0,-0.5 0,0 ; 0,0.5 0,0 ; 0.5,0 0,0 ; 3.31,-7.62 3.81,-7.62 ; 3.31,-5.08 3.81,-5.08 ; 3.31,5.08 3.81,5.08 ; 3.31,7.62 3.81,7.62 ; 3.81,-8.12 3.81,-7.62 ; 3.81,-7.12 3.81,-7.62 ; 3.81,-5.58 3.81,-5.08 ; 3.81,-4.58 3.81,-5.08 ; 3.81,4.58 3.81,5.08 ; 3.81,5.58 3.81,5.08 ; 3.81,7.12 3.81,7.62 ; 3.81,8.12 3.81,7.62 ; 4.31,-7.62 3.81,-7.62 ; 4.31,-5.08 3.81,-5.08 ; 4.31,5.08 3.81,5.08 ; 4.31,7.62 3.81,7.62
Mechanical 14:
  circle w0.1: c-1.905,7.62 r0.254
  lines w0.1: -1,10.07 ccw(c0,10.046) 1,10.07 ; -3.175,-10.07 3.175,-10.07 3.175,10.07 -3.175,10.07 -3.175,-10.07
3D body: height 8.26, standoff -3.3, extent -3.935,-10.07 3.935,10.07

## REL_MALUSKA_FRS1 [mm] "6 Leads, Row Spacing 7.62mm; Body 16mm x 11mm, MALUSKA FRS1 Serie"
height 11.5
pads (6):
  rect 1.7x1.7 hole 1: 1(-6.35,-3.81)
  round 1.7 hole 1: 5(3.81,-3.81) 6(6.35,-3.81) 7(6.35,3.81) 8(3.81,3.81) 12(-6.35,3.81)
Top Overlay:
  lines w0.2: -6.35,-2.56 -6.35,2.56 ; -6.35,0 -5.35,0 -0.65,2.617 ; -1.65,-2.06 -1.65,-5.2 4.96,-5.2 5.537,-4.623 ; -1.65,2.06 -1.65,5.2 4.96,5.2 5.537,4.623 ; 2.81,1 4.81,-1 ; 3.81,-2.56 3.81,-2 ; 3.81,2 3.81,2.56 ; -8,-5.5 8,-5.5 8,5.5 -8,5.5 -8,-5.5 ; 2.81,-2 4.81,-2 4.81,2 2.81,2 2.81,-2
Mechanical 8:
  lines w0.1: -6.85,-3.81 -6.35,-3.81 ; -6.85,3.81 -6.35,3.81 ; -6.35,-4.31 -6.35,-3.81 ; -6.35,-3.31 -6.35,-3.81 ; -6.35,3.31 -6.35,3.81 ; -6.35,4.31 -6.35,3.81 ; -5.85,-3.81 -6.35,-3.81 ; -5.85,3.81 -6.35,3.81 ; -0.5,0 0,0 ; 0,-0.5 0,0 ; 0,0.5 0,0 ; 0.5,0 0,0 ; 3.31,-3.81 3.81,-3.81 ; 3.31,3.81 3.81,3.81 ; 3.81,-4.31 3.81,-3.81 ; 3.81,-3.31 3.81,-3.81 ; 3.81,3.31 3.81,3.81 ; 3.81,4.31 3.81,3.81 ; 4.31,-3.81 3.81,-3.81 ; 4.31,3.81 3.81,3.81 ; 5.85,-3.81 6.35,-3.81 ; 5.85,3.81 6.35,3.81 ; 6.35,-4.31 6.35,-3.81 ; 6.35,-3.31 6.35,-3.81 ; 6.35,3.31 6.35,3.81 ; 6.35,4.31 6.35,3.81 ; 6.85,-3.81 6.35,-3.81 ; 6.85,3.81 6.35,3.81
Mechanical 14:
  lines w0.1: -6.35,-2.56 -6.35,2.56 ; -6.35,0 -5.35,0 -0.65,2.617 ; -1.65,-2.06 -1.65,-5.2 4.96,-5.2 5.537,-4.623 ; -1.65,2.06 -1.65,5.2 ; 2.81,1 4.81,-1 ; 3.81,-2.56 3.81,-2 ; 3.81,2 3.81,2.56 ; 4.96,5.2 5.537,4.623 ; -8,-5.5 8,-5.5 8,5.5 -8,5.5 -8,-5.5 ; 2.81,-2 4.81,-2 4.81,2 2.81,2 2.81,-2
3D body: height 11.5, standoff -3.8, extent -8,-5.5 8,5.5